# EAGLE library part BGS12AL7-4 (library isystems)
infineon BGS12AL7-4 General Purpose SPDT RF MOS Switch 30 MHz to 3 GHz Low insertion loss High port-to-port-isolation Low harmonic generation On-chip control logic High ESD robustness No external components required Temperatur Range: -30 to 85 °C http://www.infineon.com/dgdl/BGS12AL7-4.pdf?folderId=db3a304314dca3890115176d140c0ca3&fileId=db3a30431b3e89eb011b458d7a767d88
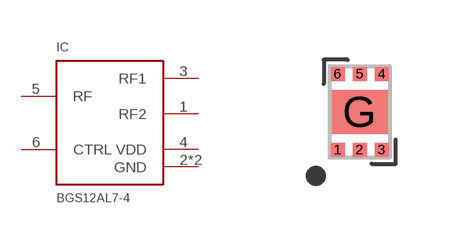
[diagram p5: symbol with the pads of TSLP7-4; footprint TSLP7-4]

Designator prefix IC

## BGS12AL7-4  [TSLP7-4]
1  RF2
2  GND  pwr
3  RF1
4  VDD  pwr
5  RF
6  CTRL  in
G  GND  pwr

## Footprint TSLP7-4 (pad centres in mm)
smd 0.35 x 0.35: 1 -0.55,-0.95; 2 0,-0.95; 3 0.55,-0.95; 4 0.55,0.95; 5 0,0.95; 6 -0.55,0.95
smd 1.4 x 1.1: G 0,0